# EAGLE library part ML4622CP (library opto-micro-linear)
FIBER OPTIC DATA QUANTIZER
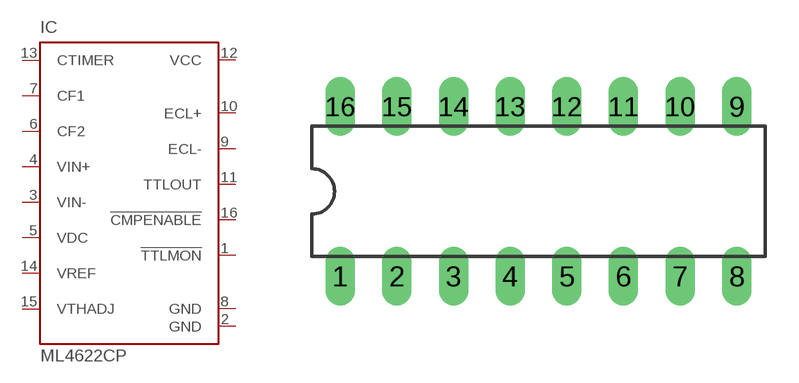
[diagram p3: symbol with the pads of DIL16; footprint DIL16]

Designator prefix IC

## ML4622CP (OC_FARNELL: unknown; OC_NEWARK: unknown)  [DIL16]
1  !TTLMON  out
2  GND  pwr
3  VIN-  in
4  VIN+  in
5  VDC  pas
6  CF2  pas
7  CF1  pas
8  GND  pwr
9  ECL-  out
10  ECL+  out
11  TTLOUT  out
12  VCC  pwr
13  CTIMER  pas
14  VREF  in
15  VTHADJ  in
16  !CMPENABLE  in

## Footprint DIL16 (pad centres in mm)
Dual In Line Package
drill 0.813 long: 1 -8.89,-3.81; 2 -6.35,-3.81; 3 -3.81,-3.81; 4 -1.27,-3.81; 5 1.27,-3.81; 6 3.81,-3.81; 7 6.35,-3.81; 8 8.89,-3.81; 9 8.89,3.81; 10 6.35,3.81; 11 3.81,3.81; 12 1.27,3.81; 13 -1.27,3.81; 14 -3.81,3.81; 15 -6.35,3.81; 16 -8.89,3.81